# Altium schematic symbol library STM32F303VCY6TR.SchLib: 1 symbol
Pins are listed as number, name and electrical type; pins without a type are passive.

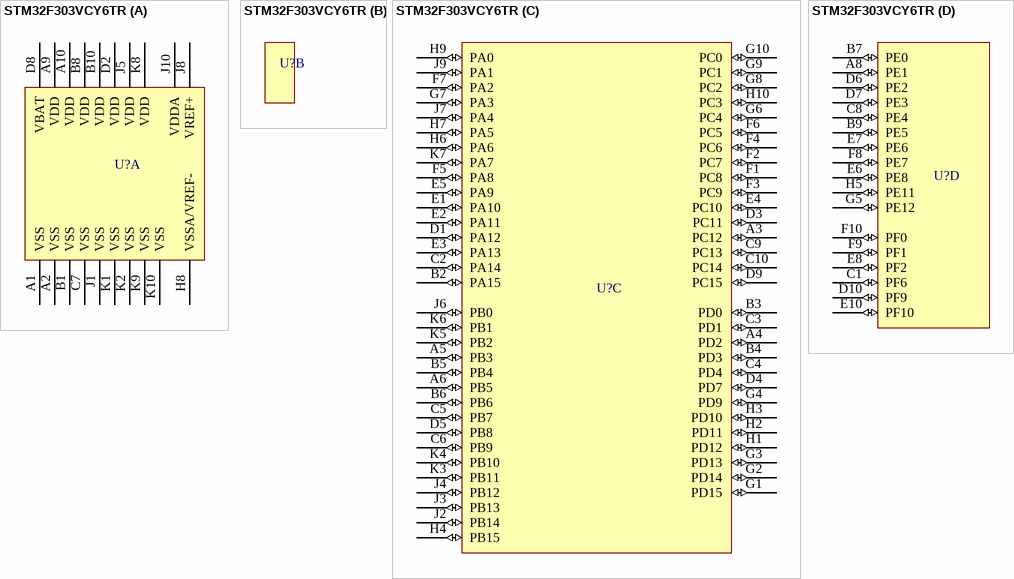
[diagram p0: symbol STM32F303VCY6TR]

## STM32F303VCY6TR
designator U?  (value not drawn)
Mainstream Mixed signals MCUs Arm Cortex-M4 core with DSP and FPU, 256 Kbytes of Flash memory, 72 MHz CPU, MPU, CCM, 12-bit ADC 5 MSPS, PGA, comparators
part A pins: A1 VSS (power), A2 VSS (power), A9 VDD (power), A10 VDD (power), B1 VSS (power), B8 VDD (power), B10 VDD (power), C7 VSS (power), D2 VDD (power), D8 VBAT (power), H8 VSSA/VREF- (power), J1 VSS (power), J5 VDD (power), J8 VREF+ (power), J10 VDDA (power), K1 VSS (power), K2 VSS (power), K8 VDD (power), K9 VSS (power), K10 VSS (power)
part C pins: A3 PC12 (io), A4 PD2 (io), A5 PB3 (io), A6 PB5 (io), B2 PA15 (io), B3 PD0 (io), B4 PD3 (io), B5 PB4 (io), B6 PB6 (io), C2 PA14 (io), C3 PD1 (io), C4 PD4 (io), C5 PB7 (io), C6 PB9 (io), C9 PC13 (io), C10 PC14 (io), D1 PA12 (io), D3 PC11 (io), D4 PD7 (io), D5 PB8 (io), D9 PC15 (io), E1 PA10 (io), E2 PA11 (io), E3 PA13 (io), E4 PC10 (io), E5 PA9 (io), F1 PC8 (io), F2 PC7 (io), F3 PC9 (io), F4 PC6 (io), F5 PA8 (io), F6 PC5 (io), F7 PA2 (io), G1 PD15 (io), G2 PD14 (io), G3 PD13 (io), G4 PD9 (io), G6 PC4 (io), G7 PA3 (io), G8 PC2 (io), G9 PC1 (io), G10 PC0 (io), H1 PD12 (io), H2 PD11 (io), H3 PD10 (io), H4 PB15 (io), H6 PA6 (io), H7 PA5 (io), H9 PA0 (io), H10 PC3 (io), J2 PB14 (io), J3 PB13 (io), J4 PB12 (io), J6 PB0 (io), J7 PA4 (io), J9 PA1 (io), K3 PB11 (io), K4 PB10 (io), K5 PB2 (io), K6 PB1 (io), K7 PA7 (io)
part D pins: A8 PE1 (io), B7 PE0 (io), B9 PE5 (io), C1 PF6 (io), C8 PE4 (io), D6 PE2 (io), D7 PE3 (io), D10 PF9 (io), E6 PE8 (io), E7 PE6 (io), E8 PF2 (io), E10 PF10 (io), F8 PE7 (io), F9 PF1 (io), F10 PF0 (io), G5 PE12 (io), H5 PE11 (io)